# Altium schematic symbol library AP1509-50SG-13.SchLib: 1 symbol
Pins are listed as number, name and electrical type; pins without a type are passive.

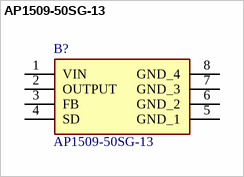
[diagram p0: symbol AP1509-50SG-13]

## AP1509-50SG-13
designator B?
DiodesZetex, AP1509-50SG-13 DC-DC Converter 2A 8-Pin, SOP; Manufacturer_Name: Diodes Inc.; Geometry.Height: 1.75mm; Mouser Part Number: 621-AP1509-50SG-13; Mouser Price/Stock: https://www.mouser.co.uk/ProductDetail/Diodes-Incorporated/AP1509-50SG-13?qs=EJYhozv%252BYpwbI10CpTvwPw%3D%3D; Manufacturer_Part_Number: AP1509-50SG-13; Datasheet Link: https://www.diodes.com/assets/Datasheets/AP1509.pdf
footprint SOIC127P600X175-8N
pins: 1 VIN, 2 OUTPUT, 3 FB, 4 SD, 5 GND_1, 6 GND_2, 7 GND_3, 8 GND_4